# EAGLE library part MCP73831 (library chips_old)
Description: Device for MCP73831 <https://www.microchip.com/wwwproducts/en/MCP73831>, a battery charge controller from Microchip.
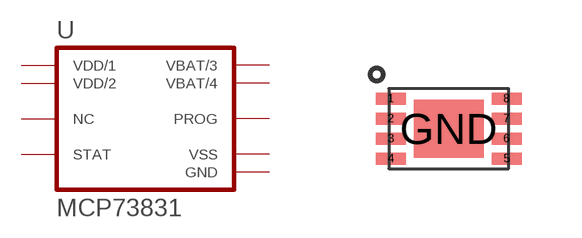
[diagram p92: symbol with the pads of DFN-8-MCP; footprint DFN-8-MCP]

Designator prefix U

## MCP73831 (DATASHEET: http://ww1.microchip.com/downloads/en/DeviceDoc/20001984g.pdf; DESCRIPTION: IC CONTROLLER LI-ION 4.2V 8DFN; DIGIKEY: MCP73831T-2ACI/MCCT-ND; MANUFACTURER: Microchip Technology; MOUSER: 579-MCP73832T-2ACIMC; MPN: MCP73831T-2ACI/MC)  [DFN-8-MCP]
1  VDD/1  pwr
2  VDD/2  pwr
3  VBAT/3  pwr
4  VBAT/4  pwr
5  STAT
6  VSS  pwr
7  NC  nc
8  PROG
GND  GND  pwr

## Footprint DFN-8-MCP (pad centres in mm)
Description: Package for the MCP73831 <https://www.microchip.com/wwwproducts/en/MCP73831>, a battery charge controller from Microchip.
smd 0.75 x 0.3: 1 -1.45,0.75; 2 -1.45,0.25; 3 -1.45,-0.25; 4 -1.45,-0.75; 5 1.45,-0.75; 6 1.45,-0.25; 7 1.45,0.25; 8 1.45,0.75
smd 1.75 x 1.45: GND 0,0